# EAGLE library part MC34673AEPR2 (library SamacSys_Parts)
Battery Management SNGL CELL BATERY CHG Source: Datasheet <http://www.nxp.com/docs/en/data-sheet/MC34673.pdf>
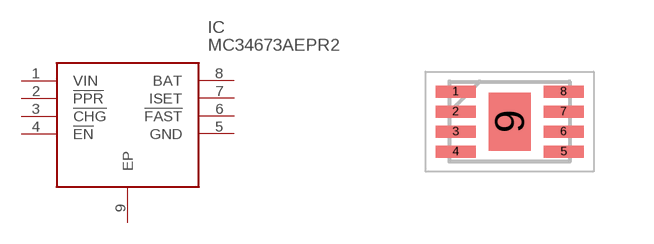
[diagram p6: symbol with the pads of SON50P300X200X65-9N; footprint SON50P300X200X65-9N]

Designator prefix IC

## MC34673AEPR2 (ARROW_PART_NUMBER: MC34673AEPR2; ARROW_PRICE-STOCK: https://www.arrow.com/en/products/mc34673aepr2/nxp-semiconductors; DESCRIPTION: Battery Management SNGL CELL BATERY CHG; HEIGHT: 0.65mm; MANUFACTURER_NAME: NXP; MANUFACTURER_PART_NUMBER: MC34673AEPR2; MOUSER_PART_NUMBER: 841-MC34673AEPR2; MOUSER_PRICE-STOCK: https://www.mouser.co.uk/ProductDetail/NXP-Semiconductors/MC34673AEPR2?qs=M6aMLVslDdKX8VbwBcTTrQ%3D%3D)  [SON50P300X200X65-9N]
1  VIN
2  !PPR
3  !CHG
4  !EN
5  GND
6  !FAST
7  ISET
8  BAT
9  EP

## Footprint SON50P300X200X65-9N (pad centres in mm)
8DFN-+-+
smd 1 x 0.3: 1 -1.35,0.75; 2 -1.35,0.25; 3 -1.35,-0.25; 4 -1.35,-0.75; 5 1.35,-0.75; 6 1.35,-0.25; 7 1.35,0.25; 8 1.35,0.75
smd 1.05 x 1.45: 9 0,0